# Altium footprint library Cell.PcbLib: 1 footprints
Each footprint in its own frame and in the unit in brackets; x right, y up, seen from the top. Pads: shape width x height; smd on the part's side, far side on the other; paste and mask are expansions set on the pad; w line width, h text height; cw(c..) or ccw(c..) is an arc to the next point about the centre after c.
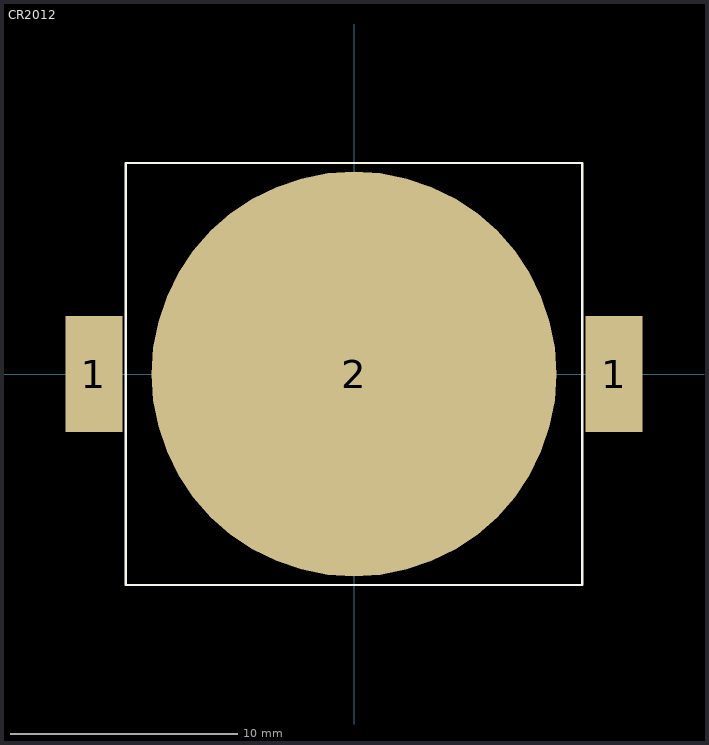
[diagram p0: the footprint, top view; thin cyan lines are the x and y axes]

## CR2012 [mm] "BAT-HLD-002-SMT"
pads (3):
  rect 2.5x5.1 smd: 1(-11.43,0) 1(11.43,0)
  round 17.8 smd paste-17.8: 2(0,0)
Top Overlay:
  lines w0.1: -10.033,-9.271 -9.652,-9.271 0.254,-9.271 10.033,-9.271 10.033,-8.382 10.033,-0.889 10.033,0 10.033,9.271 9.652,9.271 -0.254,9.271 -10.033,9.271 -10.033,8.382 -10.033,0.889 -10.033,0 -10.033,-9.271